# Altium schematic symbol library ESDLC5V0DFN10-TP.SchLib: 1 symbol
Pins are listed as number, name and electrical type; pins without a type are passive.

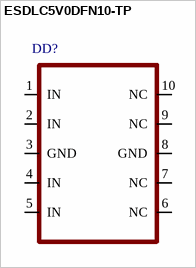
[diagram p0: symbol ESDLC5V0DFN10-TP]

## ESDLC5V0DFN10-TP
designator DD?
pins: 1 IN, 2 IN, 3 GND, 4 IN, 5 IN, 6 NC, 7 NC, 8 GND, 9 NC, 10 NC